# Altium schematic symbol library INA301.SchLib: 1 symbol
Pins are listed as number, name and electrical type; pins without a type are passive.

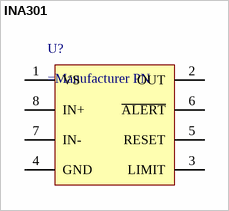
[diagram p0: symbol INA301]

## INA301
designator U?
Current Sensing Amp w/ Comparator
pins: 1 VS, 2 OUT, 3 LIMIT, 4 GND, 5 RESET, 6 ~{ALERT}, 7 IN-, 8 IN+